# Altium footprint library AMPHENOL_OQ0271510000G.PcbLib: 1 footprints
Each footprint in its own frame and in the unit in brackets; x right, y up, seen from the top. Pads: shape width x height; smd on the part's side, far side on the other; paste and mask are expansions set on the pad; w line width, h text height; cw(c..) or ccw(c..) is an arc to the next point about the centre after c.
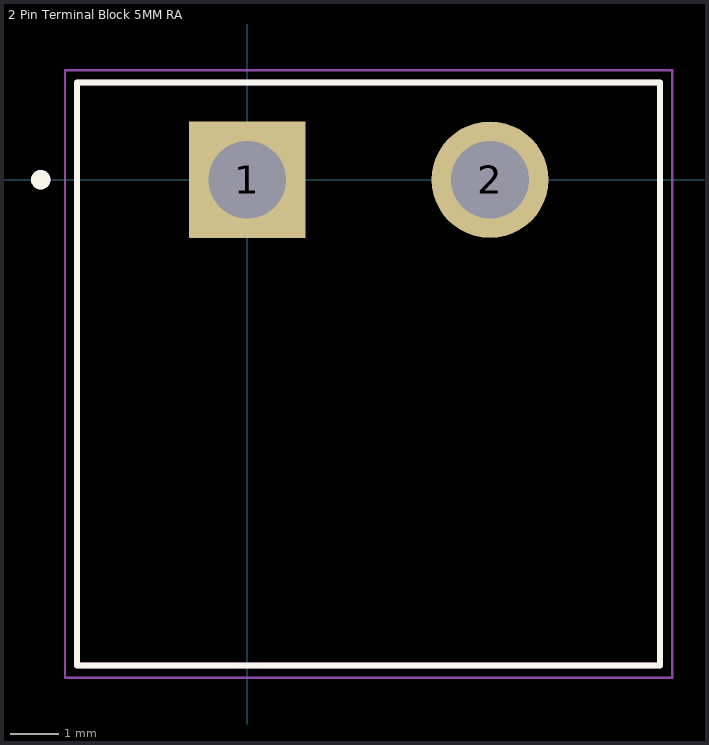
[diagram p0: the footprint, top view; thin cyan lines are the x and y axes]

## 2 Pin Terminal Block 5MM RA [mm] "2 Pin Terminal Block HDR 5MM THT RA_OQ0271510000G"
height 8.5
pads (2):
  rect 2.4x2.4 / inner round 2.4 / far side rect 2.4x2.4 hole 1.6: 1(0,0)
  round 2.4 hole 1.6: 2(5,0)
Top Overlay:
  circle w0.2: c-4.25,0 r0.1
  lines w0.127: -3.5,-10 -3.5,2 8.5,2 8.5,-10 -3.5,-10
Assembly Top:
  circle w0.2: c-4.25,0 r0.1
  lines w0.127: -3.5,-10 -3.5,2 8.5,2 8.5,-10 -3.5,-10
Courtyard Top:
  lines w0.05: -3.75,-10.25 -3.75,2.25 8.75,2.25 8.75,-10.25 -3.75,-10.25
3D body "step_temp.STEP": height 8.5, standoff -3.5, extent -3.5,-10 8.5,2